# Altium footprint library CN_MSTBVA 2,5_5-G.PcbLib: 1 footprints
Each footprint in its own frame and in the unit in brackets; x right, y up, seen from the top. Pads: shape width x height; smd on the part's side, far side on the other; paste and mask are expansions set on the pad; w line width, h text height; cw(c..) or ccw(c..) is an arc to the next point about the centre after c.
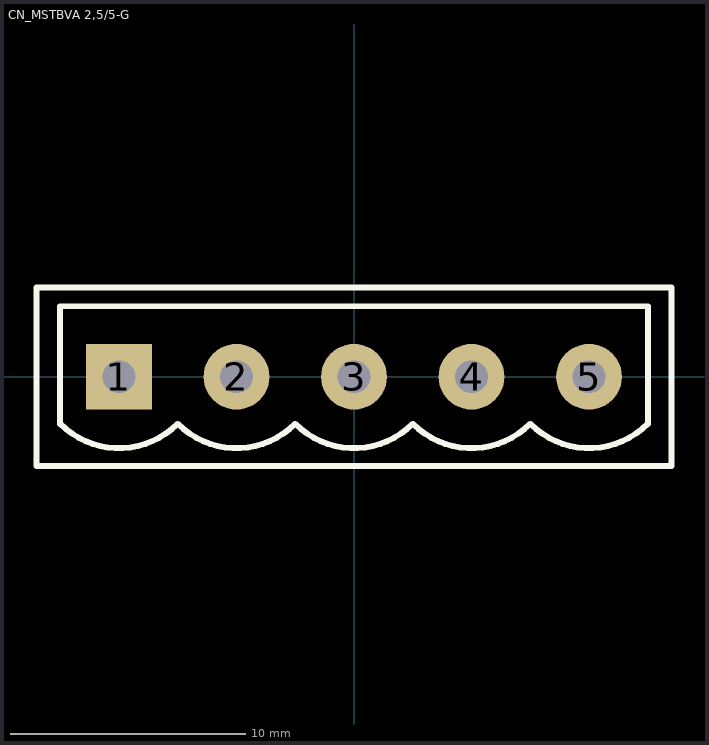
[diagram p0: the footprint, top view; thin cyan lines are the x and y axes]

## CN_MSTBVA 2,5/5-G [mm] "Terminal-PCB Male -5 pos-180°"
pads (5):
  rect 2.8x2.8 hole 1.4: 1(-10,0)
  round 2.8 hole 1.4: 2(-5,0) 3(0,0) 4(5,0) 5(10,0)
Top Overlay:
  lines w0.254: -13.5,-3.8 13.5,-3.8 13.5,3.8 -13.5,3.8 -13.5,-3.8 ; -12.5,-2 ccw(c-10,0.5) -7.5,-2 ccw(c-5,0.5) -2.5,-2 ccw(c0,0.5) 2.5,-2 ccw(c5,0.5) 7.5,-2 ccw(c10,0.5) 12.5,-2 12.5,3 -12.5,3 -12.5,-2
3D body: height 12, standoff -3.9, extent -13.5,-3.87 13.5,4.73